# EAGLE library part OPTOCOUPLER-TRANSISTOR-DUAL (library podkommander)
Vishay MCT6H, MCT62H Optocoupler, Phototransistor Output, Dual Channel
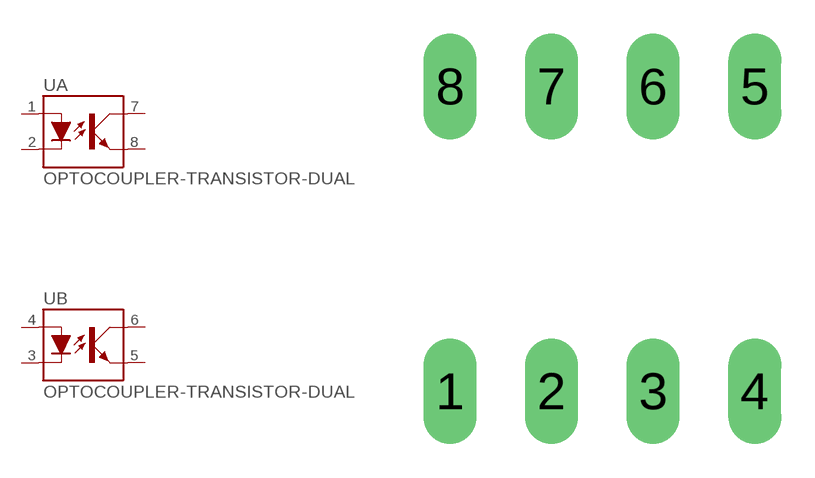
[diagram p2: symbol with the pads of DIP08-SOCKET; footprint DIP08-SOCKET]

Designator prefix U; gates A=OPTOCOUPLER-TRANSISTOR B=OPTOCOUPLER-TRANSISTOR

## OPTOCOUPLER-TRANSISTOR-DUAL-MCT6(2)H  [DIP08-SOCKET]
1  A:A  pas
2  A:C  pas
3  B:C  pas
4  B:A  pas
5  B:EMIT  pas
6  B:COL  pas
7  A:COL  pas
8  A:EMIT  pas

## Footprint DIP08-SOCKET (pad centres in mm)
drill 0.813 long: 1 -3.81,-3.81; 2 -1.27,-3.81; 3 1.27,-3.81; 4 3.81,-3.81; 5 3.81,3.81; 6 1.27,3.81; 7 -1.27,3.81; 8 -3.81,3.81